# Altium footprint library pin_headers.PcbLib: 6 footprints
Each footprint in its own frame and in the unit in brackets; x right, y up, seen from the top. Pads: shape width x height; smd on the part's side, far side on the other; paste and mask are expansions set on the pad; w line width, h text height; cw(c..) or ccw(c..) is an arc to the next point about the centre after c.
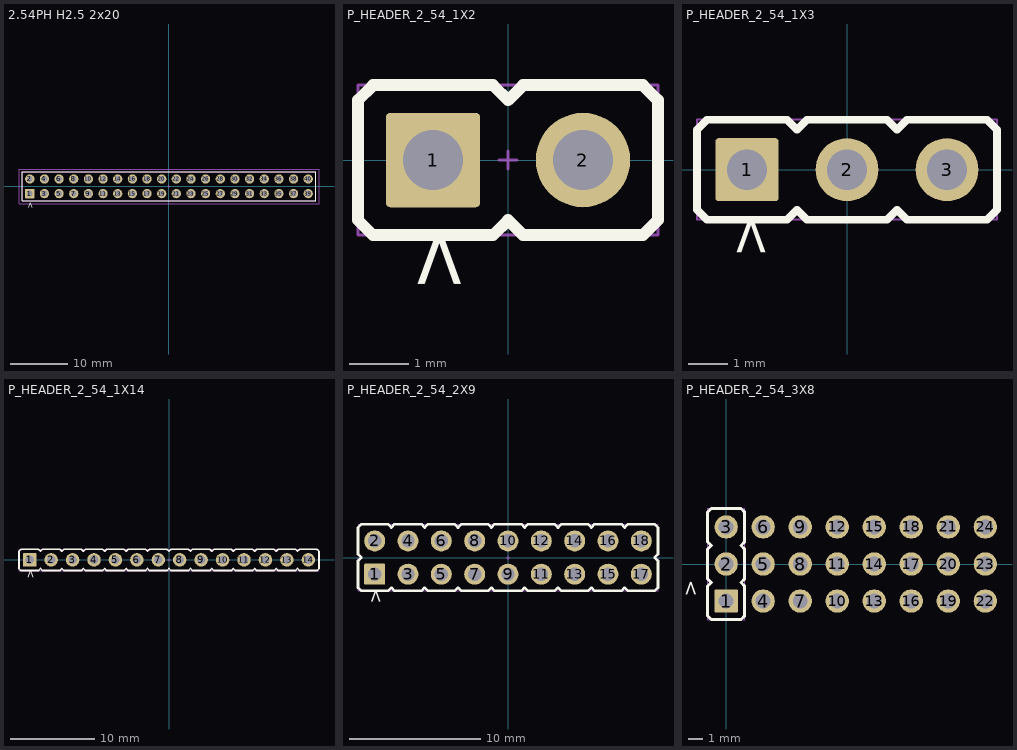
[diagram p0: the footprints below, top view; thin cyan lines are the x and y axes]

## 2.54PH H2.5 2x20 [mm]
height 8.5
pads (40):
  rrect10% 1.6x1.6 hole 1.02 mask+0.05: 1(-24.13,-1.27)
  round 1.6 hole 1.02 mask+0.05: 2(-24.13,1.27) 3(-21.59,-1.27) 4(-21.59,1.27) 5(-19.05,-1.27) 6(-19.05,1.27) 7(-16.51,-1.27) 8(-16.51,1.27) 9(-13.97,-1.27) 10(-13.97,1.27) 11(-11.43,-1.27) 12(-11.43,1.27) 13(-8.89,-1.27) 14(-8.89,1.27) 15(-6.35,-1.27) 16(-6.35,1.27) 17(-3.81,-1.27) 18(-3.81,1.27) 19(-1.27,-1.27) 20(-1.27,1.27) 21(1.27,-1.27) 22(1.27,1.27) 23(3.81,-1.27) 24(3.81,1.27) 25(6.35,-1.27) 26(6.35,1.27) 27(8.89,-1.27) 28(8.89,1.27) 29(11.43,-1.27) 30(11.43,1.27) 31(13.97,-1.27) 32(13.97,1.27) 33(16.51,-1.27) 34(16.51,1.27) 35(19.05,-1.27) 36(19.05,1.27) 37(21.59,-1.27) 38(21.59,1.27) 39(24.13,-1.27) 40(24.13,1.27)
Top Overlay:
  lines w0.2: -25.4,-2.5 25.4,-2.5 25.4,2.5 -25.4,2.5 -25.4,-2.5
  text ">" at -23.63,-3.93 h1
Top Assembly:
  lines w0.1: -25.4,-2.5 25.4,-2.5 25.4,2.5 -25.4,2.5 -25.4,-2.5
Top Courtyard:
  lines w0.05: -26,-3 26,-3 26,3 -26,3 -26,-3
Top Component Center:
  lines w0.05: -0.15,0 0.15,0 ; 0,-0.15 0,0.15
3D body "DS1021-RaspberryPi-2x20pin-colored-REV1.0.STEP": height 8.6, standoff -3, extent -25.4,-2.52 25.4,2.48

## P_HEADER_2_54_1X2 [mm]
height 8.5
pads (2):
  rrect10% 1.6x1.6 hole 1.02 paste-2539.97 mask+0.05: 1(-1.27,0)
  round 1.6 hole 1.02 paste-2539.97 mask+0.05: 2(1.27,0)
Top Overlay:
  lines w0.2: -2.54,-1.016 -2.54,1.016 -2.286,1.27 -0.254,1.27 0,1.016 0.254,1.27 2.286,1.27 2.54,1.016 2.54,-1.016 2.286,-1.27 0.254,-1.27 0,-1.016 -0.254,-1.27 -2.286,-1.27 -2.54,-1.016
  text ">" at -0.73,-2.25 h1
Top Assembly:
  lines w0.05: -2.54,-1.27 -2.54,1.27 2.54,1.27 2.54,-1.27 -2.54,-1.27
Top Courtyard:
  lines w0.05: -2.54,-1.27 -2.54,1.27 2.54,1.27 2.54,-1.27 -2.54,-1.27
Top Component Center:
  lines w0.05: -0.15,0 0.15,0 ; 0,-0.15 0,0.15
3D body "DS1021_black_1x02p_100mil_Type1_rev1.0.STEP": height 8.55, standoff -3, extent -2.54,-1.25 2.54,1.25

## P_HEADER_2_54_1X3 [mm]
height 8.5
pads (3):
  rrect10% 1.6x1.6 hole 1.02 paste-2539.97 mask+0.05: 1(-2.54,0)
  round 1.6 hole 1.02 paste-2539.97 mask+0.05: 2(0,0) 3(2.54,0)
Top Overlay:
  lines w0.2: -3.81,-1.016 -3.556,-1.27 -1.524,-1.27 -1.27,-1.016 -1.016,-1.27 1.016,-1.27 1.27,-1.016 1.524,-1.27 3.556,-1.27 3.81,-1.016 3.81,1.016 3.556,1.27 1.524,1.27 1.27,1.016 1.016,1.27 -1.016,1.27 -1.27,1.016 -1.524,1.27 -3.556,1.27 -3.81,1.016 -3.81,-1.016
  text ">" at -2,-2.25 h1
Top Assembly:
  lines w0.05: -3.81,-1.27 -3.81,1.27 3.81,1.27 3.81,-1.27 -3.81,-1.27
Top Courtyard:
  lines w0.05: -3.81,-1.27 3.81,-1.27 3.81,1.27 -3.81,1.27 -3.81,-1.27
Top Component Center:
  lines w0.05: -0.15,0 0.15,0 ; 0,-0.15 0,0.15
3D body "DS1021_black_1x03p_100mil_Type1_rev1.0.STEP": height 8.55, standoff -3, extent -3.81,-1.25 3.81,1.25

## P_HEADER_2_54_1X14 [mm]
height 8.5
pads (14):
  rrect10% 1.6x1.6 hole 1.02 paste-2539.97 mask+0.05: 1(-16.51,0)
  round 1.6 hole 1.02 paste-2539.97 mask+0.05: 2(-13.97,0) 3(-11.43,0)
  round 1.6 hole 1.02 mask+0.05: 4(-8.89,0) 5(-6.35,0) 6(-3.81,0) 7(-1.27,0) 8(1.27,0) 9(3.81,0) 10(6.35,0) 11(8.89,0) 12(11.43,0) 13(13.97,0) 14(16.51,0)
Top Overlay:
  lines w0.2: -17.78,-1.016 -17.526,-1.27 -15.494,-1.27 -15.24,-1.016 -14.986,-1.27 -12.954,-1.27 -12.7,-1.016 -12.446,-1.27 -10.414,-1.27 -10.16,-1.016 -9.906,-1.27 -7.874,-1.27 -7.62,-1.016 -7.366,-1.27 -5.334,-1.27 -5.08,-1.016 -4.826,-1.27 -2.794,-1.27 -2.54,-1.016 -2.286,-1.27 -0.254,-1.27 0,-1.016 0.254,-1.27 2.286,-1.27 2.54,-1.016 2.794,-1.27 4.826,-1.27 5.08,-1.016 5.334,-1.27 7.366,-1.27 7.62,-1.016 7.874,-1.27 9.906,-1.27 10.16,-1.016 10.414,-1.27 12.446,-1.27 12.7,-1.016 12.954,-1.27 14.986,-1.27 15.24,-1.016 15.494,-1.27 17.526,-1.27 17.78,-1.016 17.78,1.016 17.526,1.27 15.494,1.27 15.24,1.016 14.986,1.27 12.954,1.27 12.7,1.016 12.446,1.27 10.414,1.27 10.16,1.016 9.906,1.27 7.874,1.27 7.62,1.016 7.366,1.27 5.334,1.27 5.08,1.016 4.826,1.27 2.794,1.27 2.54,1.016 2.286,1.27 0.254,1.27 0,1.016 -0.254,1.27 -2.286,1.27 -2.54,1.016 -2.794,1.27 -4.826,1.27 -5.08,1.016 -5.334,1.27 -7.366,1.27 -7.62,1.016 -7.874,1.27 -9.906,1.27 -10.16,1.016 -10.414,1.27 -12.446,1.27 -12.7,1.016 -12.954,1.27 -14.986,1.27 -15.24,1.016 -15.494,1.27 -17.526,1.27 -17.78,1.016 -17.78,-1.016
  text ">" at -15.97,-2.25 h1
Top Assembly:
  lines w0.05: -17.78,-1.27 -17.78,1.27 17.78,1.27 17.78,-1.27 -17.78,-1.27
Top Courtyard:
  lines w0.05: -17.78,-1.27 17.78,-1.27 17.78,1.27 -17.78,1.27 -17.78,-1.27
Top Component Center:
  lines w0.05: -0.15,0 0.15,0 ; 0,-0.15 0,0.15
3D body "DS1021_black_1x14p_100mil_Type1_rev1.0.STEP": height 8.55, standoff -3, extent -17.78,-1.25 17.78,1.25

## P_HEADER_2_54_2X9 [mm]
height 8.5
pads (18):
  rrect10% 1.6x1.6 hole 1.02 paste-2539.97 mask+0.05: 1(-10.16,-1.27)
  round 1.6 hole 1.02 paste-2539.97 mask+0.05: 2(-10.16,1.27) 3(-7.62,-1.27)
  round 1.6 hole 1.02 mask+0.05: 4(-7.62,1.27) 5(-5.08,-1.27) 6(-5.08,1.27) 7(-2.54,-1.27) 8(-2.54,1.27) 9(0,-1.27) 10(0,1.27) 11(2.54,-1.27) 12(2.54,1.27) 13(5.08,-1.27) 14(5.08,1.27) 15(7.62,-1.27) 16(7.62,1.27) 17(10.16,-1.27) 18(10.16,1.27)
Top Overlay:
  lines w0.2: -11.43,-2.286 -11.43,-0.254 -11.176,0 -11.43,0.254 -11.43,2.286 -11.176,2.54 -9.144,2.54 -8.89,2.286 -8.636,2.54 -6.604,2.54 -6.35,2.286 -6.096,2.54 -4.064,2.54 -3.81,2.286 -3.556,2.54 -1.524,2.54 -1.27,2.286 -1.016,2.54 1.016,2.54 1.27,2.286 1.524,2.54 3.556,2.54 3.81,2.286 4.064,2.54 6.096,2.54 6.35,2.286 6.604,2.54 8.636,2.54 8.89,2.286 9.144,2.54 11.176,2.54 11.43,2.286 11.43,0.254 11.176,0 11.43,-0.254 11.43,-2.286 11.176,-2.54 9.144,-2.54 8.89,-2.286 8.636,-2.54 6.604,-2.54 6.35,-2.286 6.096,-2.54 4.064,-2.54 3.81,-2.286 3.556,-2.54 1.524,-2.54 1.27,-2.286 1.016,-2.54 -1.016,-2.54 -1.27,-2.286 -1.524,-2.54 -3.556,-2.54 -3.81,-2.286 -4.064,-2.54 -6.096,-2.54 -6.35,-2.286 -6.604,-2.54 -8.636,-2.54 -8.89,-2.286 -9.144,-2.54 -11.176,-2.54 -11.43,-2.286
  text ">" at -9.62,-3.52 h1
Top Assembly:
  lines w0.05: -11.43,0 -11.43,-2.54 11.43,-2.54 11.43,0 ; -11.43,2.54 11.43,2.54
Top Courtyard:
  lines w0.05: -11.43,0 -11.43,-2.54 11.43,-2.54 11.43,0 ; -11.43,2.54 11.43,2.54
Top Component Center:
  lines w0.05: -0.15,0 0.15,0 ; 0,-0.15 0,0.15
3D body "DS1021_black_2x09p_100mil_Type1_rev1.0.STEP": height 8.55, standoff -3, extent -11.43,-2.52 11.43,2.48

## P_HEADER_2_54_3X8 [mm]
height 8.5
pads (24):
  rrect10% 1.6x1.6 hole 1.02 paste-2539.97 mask+0.05: 1(0,-2.54)
  round 1.6 hole 1.02 paste-2539.97 mask+0.05: 2(0,0) 3(0,2.54) 4(2.54,-2.54)
  round 1.6 hole 1.02 mask+0.05: 5(2.54,0) 6(2.54,2.54) 7(5.08,-2.54) 8(5.08,0) 9(5.08,2.54) 10(7.62,-2.54) 11(7.62,0) 12(7.62,2.54) 13(10.16,-2.54) 14(10.16,0) 15(10.16,2.54) 16(12.7,-2.54) 17(12.7,0) 18(12.7,2.54) 19(15.24,-2.54) 20(15.24,0) 21(15.24,2.54) 22(17.78,-2.54) 23(17.78,0) 24(17.78,2.54)
Top Overlay:
  lines w0.2: -1.27,-3.556 -1.27,-1.524 -1.016,-1.27 -1.27,-1.016 -1.27,1.016 -1.016,1.27 -1.27,1.524 -1.27,3.556 -1.016,3.81 1.016,3.81 1.27,3.556 1.27,1.524 1.016,1.27 1.27,1.016 1.27,-1.016 1.016,-1.27 1.27,-1.524 1.27,-3.556 1.016,-3.81 -1.016,-3.81 -1.27,-3.556
  text ">" at -2,-2.25 h1
Top Assembly:
  lines w0.05: -1.27,-3.81 -1.27,3.81 1.27,3.81 1.27,-3.81 -1.27,-3.81
Top Courtyard:
  lines w0.05: -1.27,-3.81 1.27,-3.81 1.27,3.81 -1.27,3.81 -1.27,-3.81
Top Component Center:
  lines w0.05: -0.15,0 0.15,0 ; 0,-0.15 0,0.15
3D body "DS1021_black_1x03p_100mil_Type1_rev1.0.STEP": height 8.55, standoff -3, extent -1.25,-3.81 1.25,3.81